# Altium schematic symbol library STM32G473CBT6.SchLib: 1 symbol
Pins are listed as number, name and electrical type; pins without a type are passive.

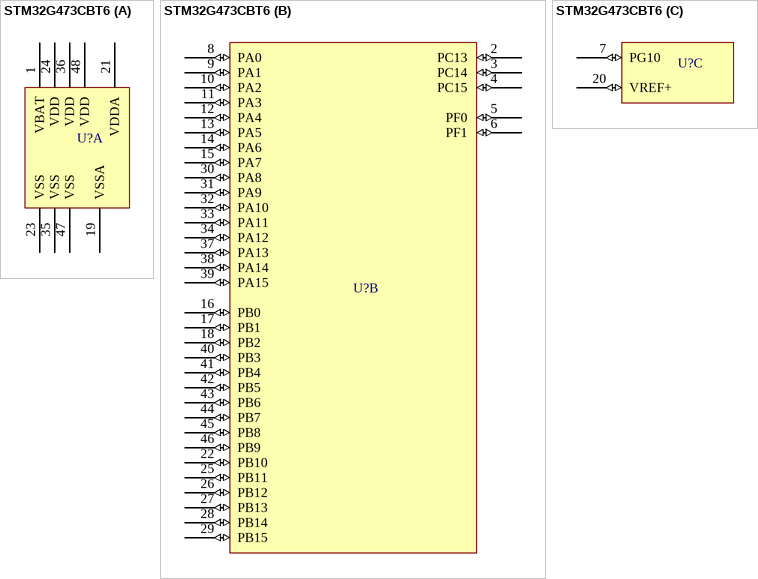
[diagram p0: symbol STM32G473CBT6]

## STM32G473CBT6
designator U?  (value not drawn)
Mainstream Arm Cortex-M4 MCU 170 MHz with 128 Kbytes of Flash memory, Math Accelerator, High Analog level integration
part A pins: 1 VBAT (power), 19 VSSA (power), 21 VDDA (power), 23 VSS (power), 24 VDD (power), 35 VSS (power), 36 VDD (power), 47 VSS (power), 48 VDD (power)
part B pins: 2 PC13 (io), 3 PC14 (io), 4 PC15 (io), 5 PF0 (io), 6 PF1 (io), 8 PA0 (io), 9 PA1 (io), 10 PA2 (io), 11 PA3 (io), 12 PA4 (io), 13 PA5 (io), 14 PA6 (io), 15 PA7 (io), 16 PB0 (io), 17 PB1 (io), 18 PB2 (io), 22 PB10 (io), 25 PB11 (io), 26 PB12 (io), 27 PB13 (io), 28 PB14 (io), 29 PB15 (io), 30 PA8 (io), 31 PA9 (io), 32 PA10 (io), 33 PA11 (io), 34 PA12 (io), 37 PA13 (io), 38 PA14 (io), 39 PA15 (io), 40 PB3 (io), 41 PB4 (io), 42 PB5 (io), 43 PB6 (io), 44 PB7 (io), 45 PB8 (io), 46 PB9 (io)
part C pins: 7 PG10 (io), 20 VREF+ (io)